# Altium footprint library FP_LM2596_D_PCB.PcbLib: 1 footprints
Each footprint in its own frame and in the unit in brackets; x right, y up, seen from the top. Pads: shape width x height; smd on the part's side, far side on the other; paste and mask are expansions set on the pad; w line width, h text height; cw(c..) or ccw(c..) is an arc to the next point about the centre after c.
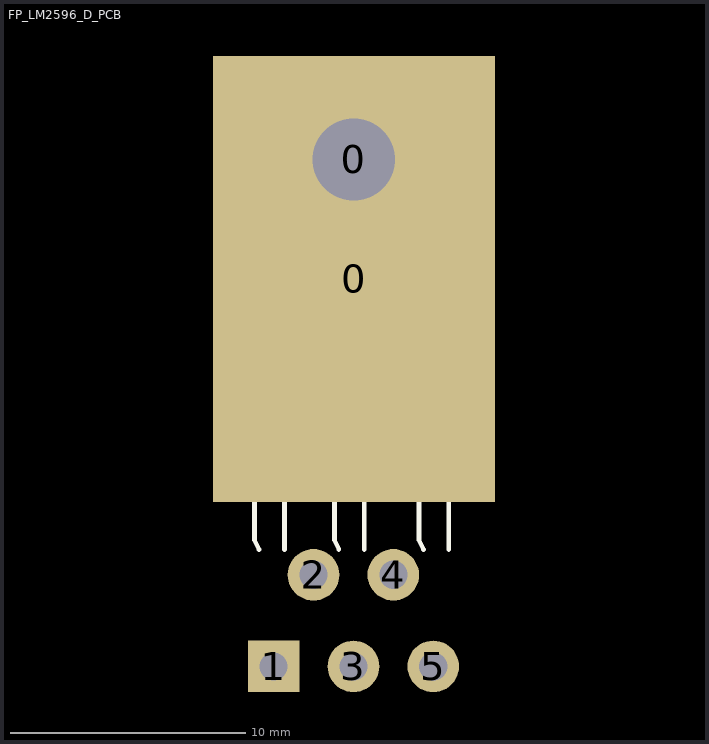
[diagram p0: the footprint, top view; thin cyan lines are the x and y axes]

## FP_LM2596_D_PCB [mm] "Fotprint LM2596 disipa calor en el PCB"
pads (7):
  round 5 hole 3.5: 0(-762.847,-829.871)
  rect 12x19 smd: 0(-762.839,-834.96)
  rect 2.2x2.2 hole 1.2: 1(-766.263,-851.468)
  round 2.2 hole 1.2: 2(-764.563,-847.568) 3(-762.863,-851.468) 4(-761.163,-847.568) 5(-759.463,-851.468)
Top Overlay:
  lines w0.2: -767.074,-842.913 -767.074,-846.088 -766.882,-846.493 ; -765.804,-846.493 -765.804,-842.913 ; -763.674,-842.913 -763.674,-846.088 -763.482,-846.493 ; -762.404,-846.493 -762.404,-842.913 ; -760.074,-842.913 -760.074,-846.088 -759.882,-846.493 ; -758.804,-846.493 -758.804,-842.913 ; -767.927,-842.952 -767.504,-842.529 ; -767.927,-842.952 -757.767,-842.952 ; -767.927,-842.952 -767.927,-830.464 -766.657,-830.464 -766.657,-829.194 -767.927,-829.194 -767.927,-827.077 -757.767,-827.077 -757.767,-829.194 -759.037,-829.194 -759.037,-830.464 -757.767,-830.464 -757.767,-833.004 -757.767,-842.952 ; -767.504,-842.529 -758.19,-842.529 ; -767.504,-842.529 -767.504,-835.332 ; -767.504,-835.332 -758.19,-835.332 ; -767.504,-835.332 -767.927,-834.062 -757.767,-834.062 -758.19,-835.332 ; -758.19,-842.529 -758.19,-835.332 ; -758.19,-842.529 -757.767,-842.952
  text "1" at -765.895,-841.936 h1.27
  text "5" at -760.307,-841.936 h1.27